# EAGLE library part AP65550SP-13 (library ruark2)
Buck Switching Regulator IC Positive Adjustable 0.76V 1 Output 5A 8-SOIC (0.154", 3.90mm Width) Exposed Pad
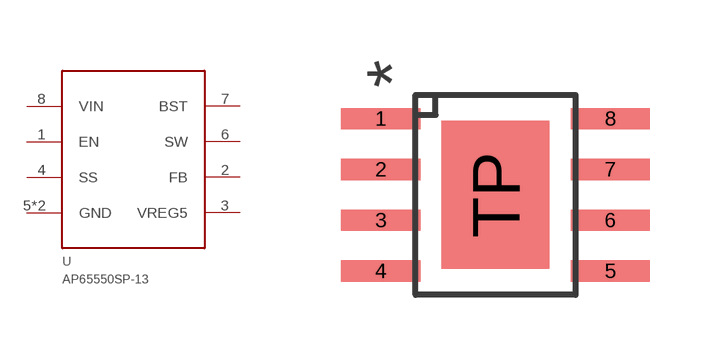
[diagram p67: symbol with the pads of SOIC8_TP; footprint SOIC8_TP]

Designator prefix U

## AP65550SP-13 (PARTNO: AP65550SP-13DICT-ND; VALUE: AP65550)  [SOIC8_TP]
1  EN
2  FB
3  VREG5
4  SS
5  GND
6  SW
7  BST
8  VIN
TP  GND

## Footprint SOIC8_TP (pad centres in mm)
smd 1.981 x 0.533: 1 -2.87,1.905; 2 -2.87,0.635; 3 -2.87,-0.635; 4 -2.87,-1.905; 5 2.87,-1.905; 6 2.87,-0.635; 7 2.87,0.635; 8 2.87,1.905
smd 2.7 x 3.7: TP 0,0